# Altium footprint library LSM9DS1TR.PcbLib: 1 footprints
Each footprint in its own frame and in the unit in brackets; x right, y up, seen from the top. Pads: shape width x height; smd on the part's side, far side on the other; paste and mask are expansions set on the pad; w line width, h text height; cw(c..) or ccw(c..) is an arc to the next point about the centre after c.
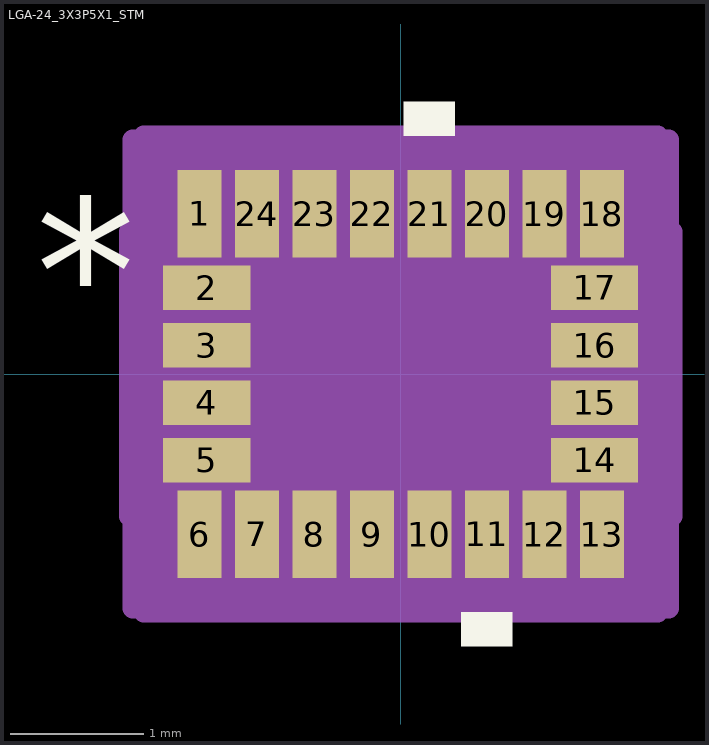
[diagram p0: the footprint, top view; thin cyan lines are the x and y axes]

## LGA-24_3X3P5X1_STM [mm]
pads (24):
  rect 0.331x0.654 smd paste-0.065 mask+0.051: 1(-1.505,1.2) 6(-1.505,-1.2) 7(-1.075,-1.2) 8(-0.645,-1.2) 9(-0.215,-1.2) 10(0.215,-1.2) 11(0.645,-1.2) 12(1.075,-1.2) 13(1.505,-1.2) 18(1.505,1.2) 19(1.075,1.2) 20(0.645,1.2) 21(0.215,1.2) 22(-0.215,1.2) 23(-0.645,1.2) 24(-1.075,1.2)
  rect 0.654x0.331 smd paste-0.065 mask+0.051: 2(-1.45,0.645) 3(-1.45,0.215) 4(-1.45,-0.215) 5(-1.45,-0.645) 14(1.45,-0.645) 15(1.45,-0.215) 16(1.45,0.215) 17(1.45,0.645)
Top Overlay:
  region: 0.406,1.781 0.025,1.781 0.025,2.035 0.406,2.035
  region: 0.835,-1.781 0.454,-1.781 0.454,-2.035 0.835,-2.035
  text "*" at -2.73,0.225 h1.27
Mechanical 13:
  lines w0.025: -1.75,0.23 -0.48,1.5 ; -1.75,-1.5 -1.75,1.5 1.75,1.5 1.75,-1.5 -1.75,-1.5 ; -1.75,-0.785 -1.65,-0.785 -1.65,-0.505 -1.75,-0.505 -1.75,-0.785 ; -1.75,-0.355 -1.65,-0.355 -1.65,-0.075 -1.75,-0.075 -1.75,-0.355 ; -1.75,0.075 -1.65,0.075 -1.65,0.355 -1.75,0.355 -1.75,0.075 ; -1.75,0.505 -1.65,0.505 -1.65,0.785 -1.75,0.785 -1.75,0.505 ; -1.645,-1.5 -1.645,-1.4 -1.365,-1.4 -1.365,-1.5 -1.645,-1.5 ; -1.645,1.4 -1.645,1.5 -1.365,1.5 -1.365,1.4 -1.645,1.4 ; -1.215,-1.5 -1.215,-1.4 -0.935,-1.4 -0.935,-1.5 -1.215,-1.5 ; -1.215,1.4 -1.215,1.5 -0.935,1.5 -0.935,1.4 -1.215,1.4 ; -0.785,-1.5 -0.785,-1.4 -0.505,-1.4 -0.505,-1.5 -0.785,-1.5 ; -0.785,1.4 -0.785,1.5 -0.505,1.5 -0.505,1.4 -0.785,1.4 ; -0.355,-1.5 -0.355,-1.4 -0.075,-1.4 -0.075,-1.5 -0.355,-1.5 ; -0.355,1.4 -0.355,1.5 -0.075,1.5 -0.075,1.4 -0.355,1.4 ; 0.075,-1.5 0.075,-1.4 0.355,-1.4 0.355,-1.5 0.075,-1.5 ; 0.075,1.4 0.075,1.5 0.355,1.5 0.355,1.4 0.075,1.4 ; 0.505,-1.5 0.505,-1.4 0.785,-1.4 0.785,-1.5 0.505,-1.5 ; 0.505,1.4 0.505,1.5 0.785,1.5 0.785,1.4 0.505,1.4 ; 0.935,-1.5 0.935,-1.4 1.215,-1.4 1.215,-1.5 0.935,-1.5 ; 0.935,1.4 0.935,1.5 1.215,1.5 1.215,1.4 0.935,1.4 ; 1.365,-1.5 1.365,-1.4 1.645,-1.4 1.645,-1.5 1.365,-1.5 ; 1.365,1.4 1.365,1.5 1.645,1.5 1.645,1.4 1.365,1.4 ; 1.65,-0.785 1.65,-0.505 1.75,-0.505 1.75,-0.785 1.65,-0.785 ; 1.65,-0.355 1.65,-0.075 1.75,-0.075 1.75,-0.355 1.65,-0.355 ; 1.65,0.075 1.65,0.355 1.75,0.355 1.75,0.075 1.65,0.075 ; 1.65,0.505 1.65,0.785 1.75,0.785 1.75,0.505 1.65,0.505
  text "*" at -1.441,0.225 h1.27
Mechanical 15:
  region: -1.924,-1.754 -2.004,-1.754 -2.004,-1.064 -2.031,-1.064 -2.031,1.064 -2.004,1.064 -2.004,1.754 -1.924,1.754 -1.924,1.781 1.924,1.781 1.924,1.754 2.004,1.754 2.004,1.064 2.031,1.064 2.031,-1.064 2.004,-1.064 2.004,-1.754 1.924,-1.754 1.924,-1.781 -1.924,-1.781
  lines w0.152: -2.031,-1.064 -2.031,1.064 -2.004,1.064 -2.004,1.754 -1.924,1.754 -1.924,1.781 1.924,1.781 1.924,1.754 2.004,1.754 2.004,1.064 2.031,1.064 2.031,-1.064 2.004,-1.064 2.004,-1.754 1.924,-1.754 1.924,-1.781 -1.924,-1.781 -1.924,-1.754 -2.004,-1.754 -2.004,-1.064 -2.031,-1.064
3D body "LGA-24_3X3P5X1_STM.step": height 1.65, standoff 0, extent -1.75,-1.5 1.75,1.5